# Altium footprint library 2.21-DFN封装.PcbLib: 4 footprints
Each footprint in its own frame and in the unit in brackets; x right, y up, seen from the top. Pads: shape width x height; smd on the part's side, far side on the other; paste and mask are expansions set on the pad; w line width, h text height; cw(c..) or ccw(c..) is an arc to the next point about the centre after c.
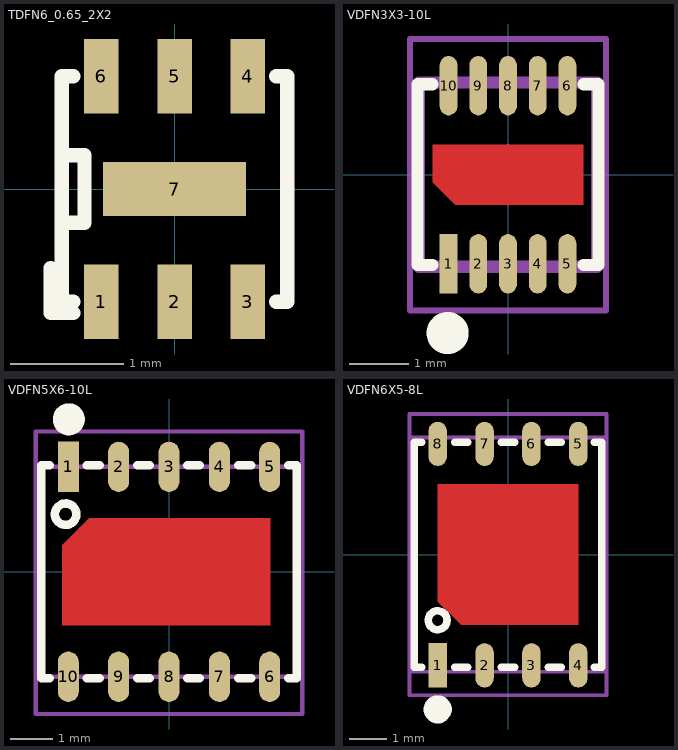
[diagram p0: the footprints below, top view; thin cyan lines are the x and y axes]

## TDFN6_0.65_2X2 [mil] "封装库来自淘宝卖家 ID：黄晶宝石"
height 31.5
pads (7):
  rect 12x26 smd: 1(-25.59,-39.37) 2(0,-39.37) 3(25.59,-39.37) 4(25.59,39.37) 5(0,39.37) 6(-25.59,39.37)
  rect 50x19 smd: 7(0,0)
Top Overlay:
  lines w5: -43.31,-27.56 -43.31,-43.31 -35.43,-43.31 ; -39.37,-11.81 -31.5,-11.81 -31.5,11.81 -39.37,11.81 ; -35.43,-39.37 -39.37,-39.37 -39.37,39.37 -35.43,39.37 ; 35.43,-39.37 39.37,-39.37 39.37,39.37 35.43,39.37

## VDFN3X3-10L [mm] "3mm*3mm*0.5mm(长*宽*脚距）         淘宝ID:黄晶宝石"
pads (10):
  rect 0.3x1 smd: 1(-1,-1.5)
  oval 0.3x1 smd: 2(-0.5,-1.5) 3(0,-1.5) 4(0.5,-1.5) 5(1,-1.5) 6(1,1.5) 7(0.5,1.5) 8(0,1.5) 9(-0.5,1.5) 10(-1,1.5)
Top Layer:
  region: -1.27,0.508 1.27,0.508 1.27,-0.508 -0.889,-0.508 -1.27,-0.127
Top Overlay:
  circle w0.508: c-1.016,-2.667 r0.1
  lines w0.203: -1.27,-1.524 -1.524,-1.524 -1.524,1.524 -1.27,1.524 ; 1.27,-1.524 1.524,-1.524 1.524,1.524 1.27,1.524
Top Solder:
  region: -1.27,0.508 1.27,0.508 1.27,-0.508 -0.889,-0.508 -1.27,-0.127
Mechanical 13:
  lines w0.203: 1.5,-1.55 1.5,1.55 ; -1.5,-1.55 1.5,-1.55 1.5,1.55 -1.5,1.55 -1.5,-1.55
Mechanical 15:
  circle w0.05: c0,0 r0.35
  lines w0.05: -0.5,0 0.5,0 ; 0,-0.5 0,0.5
  lines w0.1: -1.651,-2.286 1.651,-2.286 1.651,2.286 -1.651,2.286 -1.651,-2.286
3D body "VDFN3X3-10L.STEP": height 1.06, standoff 0.02, extent -1.5,-1.55 1.5,1.55

## VDFN5X6-10L [mm] "5mm*6mm*1.2mm(长*宽*脚距）        淘宝ID:黄晶宝石"
pads (10):
  rect 0.5x1.2 smd: 1(-2.4,2.5)
  oval 0.5x1.2 smd: 2(-1.2,2.5) 3(0,2.5) 4(1.2,2.5) 5(2.4,2.5) 6(2.4,-2.5) 7(1.2,-2.5) 8(0,-2.5) 9(-1.2,-2.5) 10(-2.4,-2.5)
Top Layer:
  region: 2.413,1.27 -1.905,1.27 -2.54,0.635 -2.54,-1.27 2.413,-1.27
Top Overlay:
  circle w0.508: c-2.388,3.632 r0.127
  circle w0.203: c-2.464,1.372 r0.255
  lines w0.203: -2.845,-2.54 -3.048,-2.54 -3.048,2.54 -2.845,2.54 ; -1.956,-2.54 -1.651,-2.54 ; -1.956,2.54 -1.651,2.54 ; -0.762,-2.54 -0.457,-2.54 ; -0.762,2.54 -0.457,2.54 ; 0.432,-2.54 0.737,-2.54 ; 0.432,2.54 0.737,2.54 ; 1.651,-2.54 1.956,-2.54 ; 1.651,2.54 1.956,2.54 ; 2.845,-2.54 3.048,-2.54 3.048,2.54 2.845,2.54
Top Solder:
  region: 2.413,1.27 -1.905,1.27 -2.54,0.635 -2.54,-1.27 2.413,-1.27
Mechanical 13:
  lines w0.1: -3,-2.5 -3,2.5 3,2.5 3,-2.5 -3,-2.5
Mechanical 15:
  circle w0.05: c0,0 r0.35
  lines w0.05: -0.5,0 0.5,0 ; 0,-0.5 0,0.5
  lines w0.1: -3.175,-3.389 -3.175,3.342 3.175,3.342 3.175,-3.389 -3.175,-3.389
3D body "VDFN5X6-10L.STEP": height 1.06, standoff 0.02, extent -3,-2.55 3,2.55

## VDFN6X5-8L [mm] "6mm*5mm*1.27mm(长*宽*脚距)          淘宝ID:黄晶宝石"
pads (8):
  rect 0.5x1.2 smd: 1(-1.905,-3)
  oval 0.5x1.2 smd: 2(-0.635,-3) 3(0.635,-3) 4(1.905,-3) 5(1.905,3) 6(0.635,3) 7(-0.635,3) 8(-1.905,3)
Top Layer:
  region: 1.905,-1.905 -1.27,-1.905 -1.905,-1.27 -1.905,1.905 1.905,1.905
Top Overlay:
  circle w0.203: c-1.905,-1.778 r0.255
  circle w0.508: c-1.905,-4.191 r0.127
  lines w0.203: -2.337,-3.048 -2.54,-3.048 -2.54,3.048 -2.337,3.048 ; -1.448,-3.048 -1.092,-3.048 ; -1.448,3.048 -1.092,3.048 ; -0.178,-3.048 0.178,-3.048 ; -0.178,3.048 0.178,3.048 ; 1.092,-3.048 1.448,-3.048 ; 1.092,3.048 1.448,3.048 ; 2.337,-3.048 2.54,-3.048 2.54,3.048 2.337,3.048
Top Solder:
  region: 1.905,-1.905 -1.27,-1.905 -1.905,-1.27 -1.905,1.905 1.905,1.905
Mechanical 13:
  lines w0.1: -2.667,-3.175 2.667,-3.175 2.667,1.905 2.667,3.175 -2.667,3.175 -2.667,-3.175
Mechanical 15:
  circle w0.05: c0,0 r0.35
  lines w0.05: -0.5,0 0.5,0 ; 0,-0.5 0,0.5
  lines w0.1: -2.667,-3.81 2.667,-3.81 2.667,3.81 -2.667,3.81 -2.667,-3.81
3D body "VDFN6X5-8L.STEP": height 1.06, standoff 0.03, extent -2.5,-3.05 2.5,3.05